# Altium integrated library Self_Sensing_Library.IntLib: 22 symbols
Pins are listed as number, name and electrical type; pins without a type are passive.

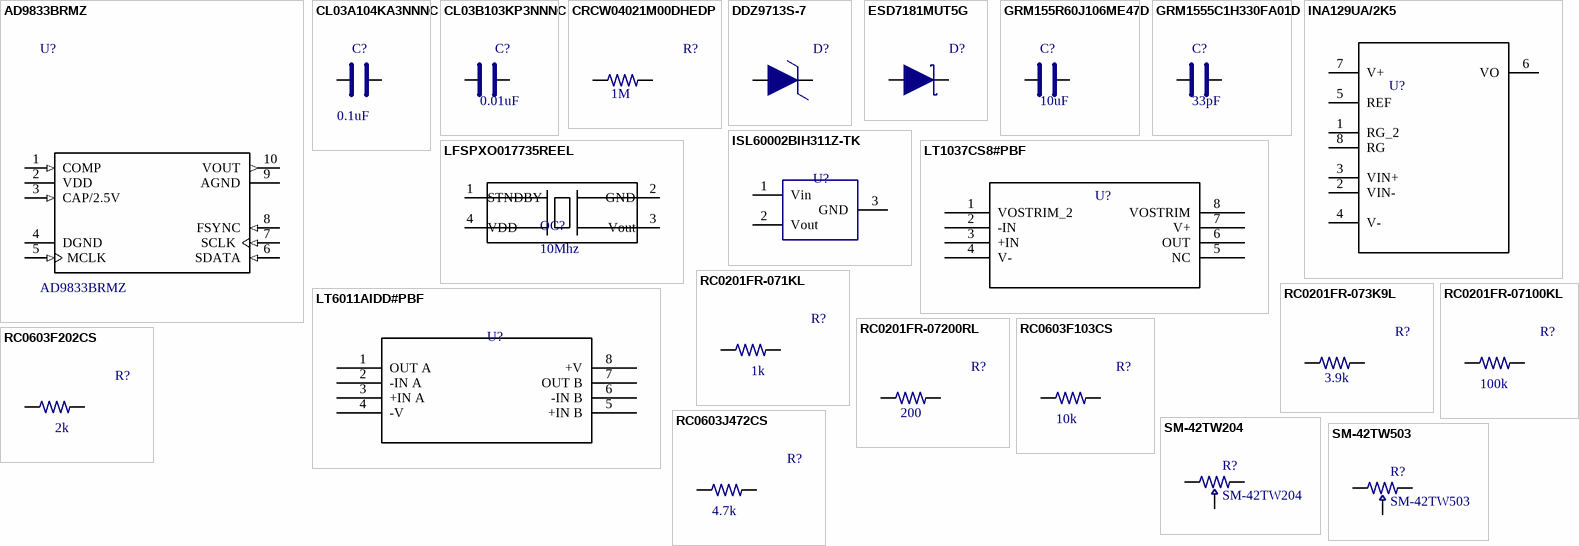
[diagram p0: symbols AD9833BRMZ to SM-42TW503]

## AD9833BRMZ
designator U?
Direct Digital Synthesizer 25MHz 1-DAC 10-Bit Serial 10-Pin MSOP Tube; MF: Analog Devices; MP: AD9833BRMZ; Price: 10.14; Package: MSOP-10 Analog Devices; Digikey Part Number: ‎AD9833BRMZ-ND‎
footprint AD9833BRMZ
pins: 1 COMP (in), 2 VDD (power), 3 CAP/2.5V (in), 4 DGND (power), 5 MCLK (in), 6 SDATA (in), 7 SCLK (in), 8 FSYNC (in), 9 AGND (power), 10 VOUT (out)

## CL03A104KA3NNNC
designator C?  value 0.1uF  (hidden comment: CL03A104KA3NNNC)
CAP CER 0.1UF 25V X5R 0201; Manufacturer: Samsung; Package: 0201 (0603 Metric); Manufacturer Part Number: CL03A104KA3NNNC; Digikey Part Number: 1276-1318-6-ND; Voltage Rated: 25V; Temperature Coefficient: X5R; Unit Price: $0.75; Supplier: Digikey
footprint CL03A104KA3NNNC
pins: 1, 2

## CL03B103KP3NNNC
designator C?  value 0.01uF  (hidden comment: CL03B103KP3NNNC)
CAP CER 10000PF 10V X7R 0201; Manufacturer: Samsung; Package: 0201 (0603 Metric); Manufacturer Part Number: CL03B103KP3NNNC; Digikey Part Number: 1276-1152-1-ND; Voltage Rated: 10V; Temperature Coefficient: X7R; Unit Price: 0.13; Supplier: Digikey
footprint CL03B103KP3NNNC
pins: 1, 2

## CRCW04021M00DHEDP
designator R?  value 1M  (hidden comment: CRCW04021M00DHEDP)
RES SMD 1M OHM 0.5% 1/16W 0402; Manufacturer: Vishay Dale; Power (Watts): 0.063W; Package: 0402; Manufacturer Part Number: CRCW04021M00DHEDP; Digikey Part Number: 541-1.0MAVCT-ND; Unit Price: 0.3; Supplier: Digikey
footprint CRCW04021M00DHEDP
pins: 1, 2

## DDZ9713S-7
designator D?  (value not drawn)
DIODE ZENER 30V 200MW SOD323; Manufacturer: Diodes Incorporated; Package: 0201 (0603 Metric); Manufacturer Part Number: DDZ9713S-7; Digikey Part Number: DDZ9713S-7DICT-ND; Unit Price: $0.49; Supplier: Digikey; V Zener: 30V
footprint SOD323
pins: 1, 2

## ESD7181MUT5G
designator D?  (value not drawn)
TVS DIODE 18.5V 35V 2X3DFN; Manufacturer: ON Semiconductor; DC Reverse: 40V; Package: 0201 (0603 Metric); Manufacturer Part Number: ESD7181MUT5G; Digikey Part Number: ESD7181MUT5GOSCT-ND; Unit Price: $0.49; Supplier: Digikey
footprint ESD7181MU
pins: 1, 2

## GRM155R60J106ME47D
designator C?  value 10uF  (hidden comment: GRM155R60J106ME47D)
CAP CER 10UF 6.3V X5R 0402; Manufacturer: Murata; Package: 0402 (1005 Metric); Manufacturer Part Number: GRM155R60J106ME47D; Digikey Part Number: 490-13239-1-ND; Voltage Rated: 6.3V; Temperature Coefficient: X5R; Unit Price: $0.85; Supplier: Digikey
footprint GRM155R60J106ME47D
pins: 1, 2

## GRM1555C1H330FA01D
designator C?  value 33pF  (hidden comment: GRM1555C1H330FA01D)
CAP CER 33PF 50V C0G/NP0 0402; Manufacturer: Murata; Temperature Coefficient: COG; Package: 0402 (1005 Metric); Manufacturer Part Number: GRM1555C1H330FA01D; Digikey Part Number: 490-6231-1-ND; Voltage Rated: 50V; Unit Price: $0.85; Supplier: Digikey
footprint GRM155R60J106ME47D
pins: 1, 2

## INA129UA/2K5
designator U?  (value not drawn)
IC OPAMP INSTR 1.3MHZ 8SOIC; Manufacturer: Texas Instruments; Package: 8-SOIC; Manufacturer Part Number: INA129UA/2K5; Digikey Part Number: 296-26058-1-ND; Unit Price: $7.46; Supplier: Digikey
footprint INA129UA/2K5
pins: 1 RG_2, 2 VIN-, 3 VIN+, 4 V-, 5 REF, 6 VO, 7 V+, 8 RG

## ISL60002BIH311Z-TK
designator U?  (value not drawn)
IC VREF SERIES 1.2V SOT23-3; Manufacturer: Renesas Electronics; Package: SOT-23-3; Manufacturer Part Number: ISL60002BIH311Z-TK; Digikey Part Number: ISL60002BIH311Z-TKCT-ND; Unit Price: $6.41; Supplier: Digikey
footprint ISL60002-12
pins: 1 Vin, 2 Vout, 3 GND

## LFSPXO017735REEL
designator OC?  value 10Mhz  (hidden comment: LFSPXO017735REEL)
XTAL OSC XO 10.0000MHZ HCMOS TTL; Manufacturer: IQD Frequency Products; Package: 4-SMD; Manufacturer Part Number: LFSPXO017735REEL; Digikey Part Number: 1923-1091-1-ND; Unit Price: 1; Supplier: Digikey
footprint LFSPXO017735REEL
pins: 1 STNDBY (io), 2 GND (io), 3 Vout (io), 4 VDD (io)

## LT1037CS8#PBF
designator U?  (value not drawn)
IC OPAMP GP 60MHZ 8SO; Manufacturer: Linear Technology; Value: 15.85k; Package: 8-SOIC; Manufacturer Part Number: LT1037CS8#PBF; Digikey Part Number: LT1037CS8#PBF-ND; Unit Price: $4.23; Supplier: Digikey
footprint LT1037CS8#PBF
footprint LT1037CS8#PBF
pins: 1 VOSTRIM_2, 2 -IN, 3 +IN, 4 V-, 5 NC, 6 OUT, 7 V+, 8 VOSTRIM

## LT6011AIDD#PBF
designator U?  (value not drawn)
IC OPAMP GP 350KHZ RRO 8DFN; Manufacturer: Analog Device; Package: 8 DFN; Manufacturer Part Number: LT6011AIDD#PBF; Digikey Part Number: LT6011AIDD#PBF-ND; Unit Price: $8.43; Supplier: Digikey
footprint LT6011AIDD#PBF
footprint LT1037CS8#PBF
pins: 1 OUT A, 2 -IN A, 3 +IN A, 4 -V, 5 +IN B, 6 -IN B, 7 OUT B, 8 +V

## RC0201FR-071KL
designator R?  value 1k  (hidden comment: RC0201FR-071KL)
RES SMD 1K OHM 1% 1/20W 0201; Manufacturer: Yageo; Power (Watts): 0.05W; Package: 0201 (0603 Metric); Manufacturer Part Number: RC0201FR-071KL; Digikey Part Number: 311-1KMCT-ND; Unit Price: 0.1; Supplier: Digikey
footprint RC0603F202CS
pins: 1, 2

## RC0201FR-073K9L
designator R?  value 3.9k  (hidden comment: RC0201FR-073K9L)
RES SMD 3.9K OHM 1% 1/20W 0201; Manufacturer: Yageo; Power (Watts): 0.05W; Package: 0201 (0603 Metric); Manufacturer Part Number: RC0201FR-073K9L; Digikey Part Number: YAG2655CT-ND; Unit Price: 0.1; Supplier: Digikey
footprint RC0201FR-07130KL
pins: 1, 2

## RC0201FR-07100KL
designator R?  value 100k  (hidden comment: RC0201FR-07100KL)
RES SMD 100K OHM 1% 1/20W 0201; Manufacturer: Yageo; Power (Watts): 0.05W; Package: 0201 (0603 Metric); Manufacturer Part Number: RC0201FR-07100KL; Digikey Part Number: 311-100KMCT-ND; Unit Price: 0.1; Supplier: Digikey
footprint RC0201FR-07100KL
pins: 1, 2

## RC0201FR-07200RL
designator R?  value 200  (hidden comment: RC0201FR-07200RL)
RES SMD 200 OHM 1% 1/20W 0201; Manufacturer: Yageo; Power (Watts): 0.05W; Package: 0201 (0603 Metric); Manufacturer Part Number: RC0201FR-07200RL; Digikey Part Number: YAG2495CT-ND; Unit Price: 0.1; Supplier: Digikey
footprint RC0201FR-07130KL
pins: 1, 2

## RC0603F103CS
designator R?  value 10k  (hidden comment: RC0603F103CS)
RES SMD 10K OHM 1% 1/20W 0201; Manufacturer: Samsung; Power (Watts): 0.05W; Package: 0201 (0603 Metric); Manufacturer Part Number: RC0603F103CS; Digikey Part Number: YAG2407CT-ND; Unit Price: 0.1; Supplier: Digikey
footprint RC0603F103CS
pins: 1, 2

## RC0603F202CS
designator R?  value 2k  (hidden comment: RC0603F202CS)
RES SMD 2K OHM 1% 1/20W 0201; Manufacturer: Samsung; Power (Watts): 0.05W; Package: 0201 (0603 Metric); Manufacturer Part Number: RC0603F202CS; Digikey Part Number: 1276-3633-1-ND; Unit Price: 0.1; Supplier: Digikey
footprint RC0603F202CS
pins: 1, 2

## RC0603J472CS
designator R?  value 4.7k  (hidden comment: RC0603J472CS)
RES SMD 4.7K OHM 5% 1/20W 0201; Manufacturer: Samsung; Power (Watts): 0.05W; Package: 0201 (0603 Metric); Manufacturer Part Number: RC0603J472CS; Digikey Part Number: 1276-3810-1-ND; Unit Price: 0.1; Supplier: Digikey
footprint RC0603J472CS
pins: 1, 2

## SM-42TW204
designator R?
TRIMMER 200KOHM 0.25W J LEAD TOP; Manufacturer: Nidec Copal Electronics; Vendor: Digikey; Digikey Part Number: SM-42TW204CT-ND; Unit Price: 3.67; Manufacturer Part Number: SM-42TW204
footprint SM-42TW503
pins: 1, 2, 3

## SM-42TW503
designator R?
TRIMMER 50K OHM 0.25W J LEAD TOP; Manufacturer: Nidec Copal Electronics; Vendor: Digikey; Digikey Part Number: SM-42TW503CT-ND; Unit Price: 3.67; Manufacturer Part Number: SM-42TW503
footprint SM-42TW503
pins: 1, 2, 3